# EAGLE library part LSF0204QPWRQ1 (library LSF0204QPWRQ1)
Automotive 4-Bit Bidirectional Multi-Voltage Level Translator for Open-Drain or Push- Pull Interface Source: Datasheet <http://www.ti.com/lit/gpn/lsf0204-q1>
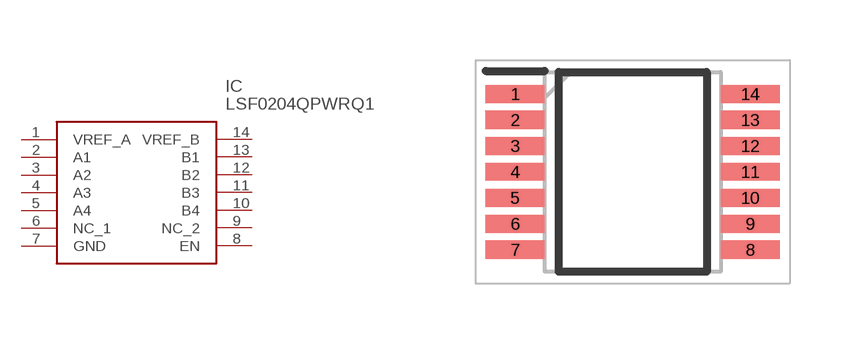
[diagram p0: symbol with the pads of SOP65P640X120-14N; footprint SOP65P640X120-14N]

Designator prefix IC

## LSF0204QPWRQ1 (Description: Automotive 4-Bit Bidirectional Multi-Voltage Level Translator for Open-Drain or Push- Pull Interface; Height: 1.2mm; Manufacturer_Name: Texas Instruments; Manufacturer_Part_Number: LSF0204QPWRQ1; Mouser_Part_Number: 595-LSF0204QPWRQ1; Mouser_Price-Stock: https://www.mouser.co.uk/ProductDetail/Texas-Instruments/LSF0204QPWRQ1?qs=w%2Fv1CP2dgqqt88p%2F1xId1A%3D%3D)  [SOP65P640X120-14N]
1  VREF_A
2  A1
3  A2
4  A3
5  A4
6  NC_1
7  GND
8  EN
9  NC_2
10  B4
11  B3
12  B2
13  B1
14  VREF_B

## Footprint SOP65P640X120-14N (pad centres in mm)
14-Pin TSSOP-ren1
smd 1.475 x 0.45: 1 -2.938,1.95; 2 -2.938,1.3; 3 -2.938,0.65; 4 -2.938,0; 5 -2.938,-0.65; 6 -2.938,-1.3; 7 -2.938,-1.95; 8 2.938,-1.95; 9 2.938,-1.3; 10 2.938,-0.65; 11 2.938,0; 12 2.938,0.65; 13 2.938,1.3; 14 2.938,1.95